# EAGLE library part XC9C* (library alvie)
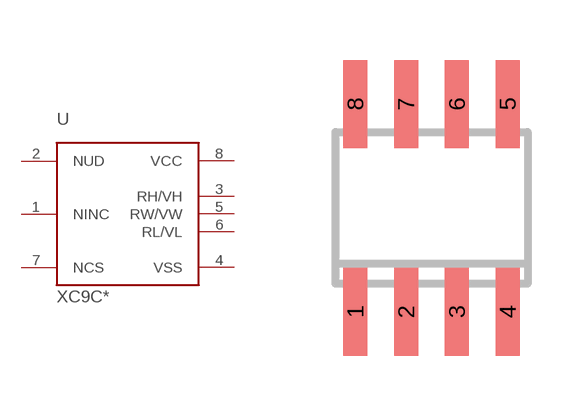
[diagram p63: symbol with the pads of SOIC8; footprint SOIC8]

Designator prefix -

## XC9C103, XC9C104  [SOIC8]
1  NINC  in
2  NUD  in
3  RH/VH  pas
4  VSS  pwr
5  RW/VW  pas
6  RL/VL  pas
7  NCS  in
8  VCC  pwr

## Footprint SOIC8 (pad centres in mm)
smd 0.6 x 2.2: 1 -1.905,-2.6; 2 -0.635,-2.6; 3 0.635,-2.6; 4 1.905,-2.6; 5 1.905,2.6; 6 0.635,2.6; 7 -0.635,2.6; 8 -1.905,2.6